# EAGLE library part 61900611021 (library WR-WTB)
WR-WTB 2.54 mm Male Right Angled Locking Header Bottom Locking Material Properties Insulator Material Nylon 66 Insulator Flammability Rating UL94 V-0 Insulator Color Beige Contact Material Copper Alloy Contact Plating Tin Contact Type Stamped Certification UL Approval E323964 General Information Operating Temperature -40 °C up to +105 °C Working Voltage 250 V (AC) Withstanding Voltage 1000 V (AC) Contact Resistance 20 mΩ RISO 1000 MΩ Pitch 2.54 mm Gender Male Type Right Angled Bottom Locking Packaging Properties Packaging Bag <https://www.we-online.com/components/media/o33344v209%206190xx11021_Multi-parts.jpg> Details see: www.we-online.com/en/components/products/WTB_2_54_MALE_RIGHT_ANGLED_LOCKING_HEADER_BOTTOM_LOCKING <www.we-online.com/catalog/WTB_2_54_MALE_RIGHT_ANGLED_LOCKING_HEADER_BOTTOM_LOCKING/?utm_source=eagle_model&utm_medium=description_link&utm_campaign=eisos_eagle> Updated by Ella 2025-03-06 2025 (C) Würth Elektronik
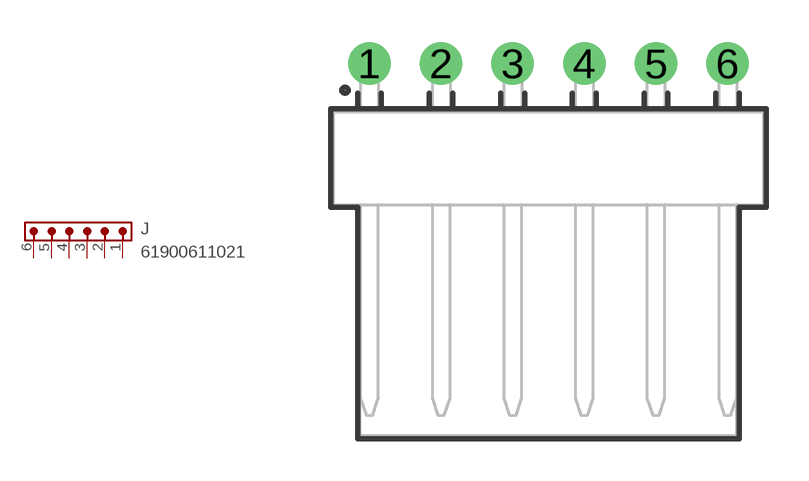
[diagram p105: symbol with the pads of 61900611021; footprint 61900611021]

Designator prefix J

## 61900611021 (CONTACT-RESISTANCE: 20mOhm; DATASHEET-URL: https://www.we-online.com/redexpert/spec/61900611021?ae; GENDER: Male; IR: 3A; L: 15.24mm; MOUNT: THT; PACKAGING: Bag; PART-NUMBER: 61900611021; PCB-CABLE-PANEL: PCB; PINS: 6; PITCH: 2.54mm; TYPE: Right Angled Bottom Locking; VALUE: 61900611021; WORKING-VOLTAGE: 250V(AC))  [61900611021]
1  1  pas
2  2  pas
3  3  pas
4  4  pas
5  5  pas
6  6  pas

## Footprint 61900611021 (pad centres in mm)
WR-WTB 2.54mm Male Left Angled Header Bottom Locking, 6 pins;
drill 1: 1 -6.35,3.35; 2 -3.81,3.35; 3 -1.27,3.35; 4 1.27,3.35; 5 3.81,3.35; 6 6.35,3.35